# Altium schematic symbol library QUTMS_STMMicroLibrary.SchLib: 3 symbols
Pins are listed as number, name and electrical type; pins without a type are passive.

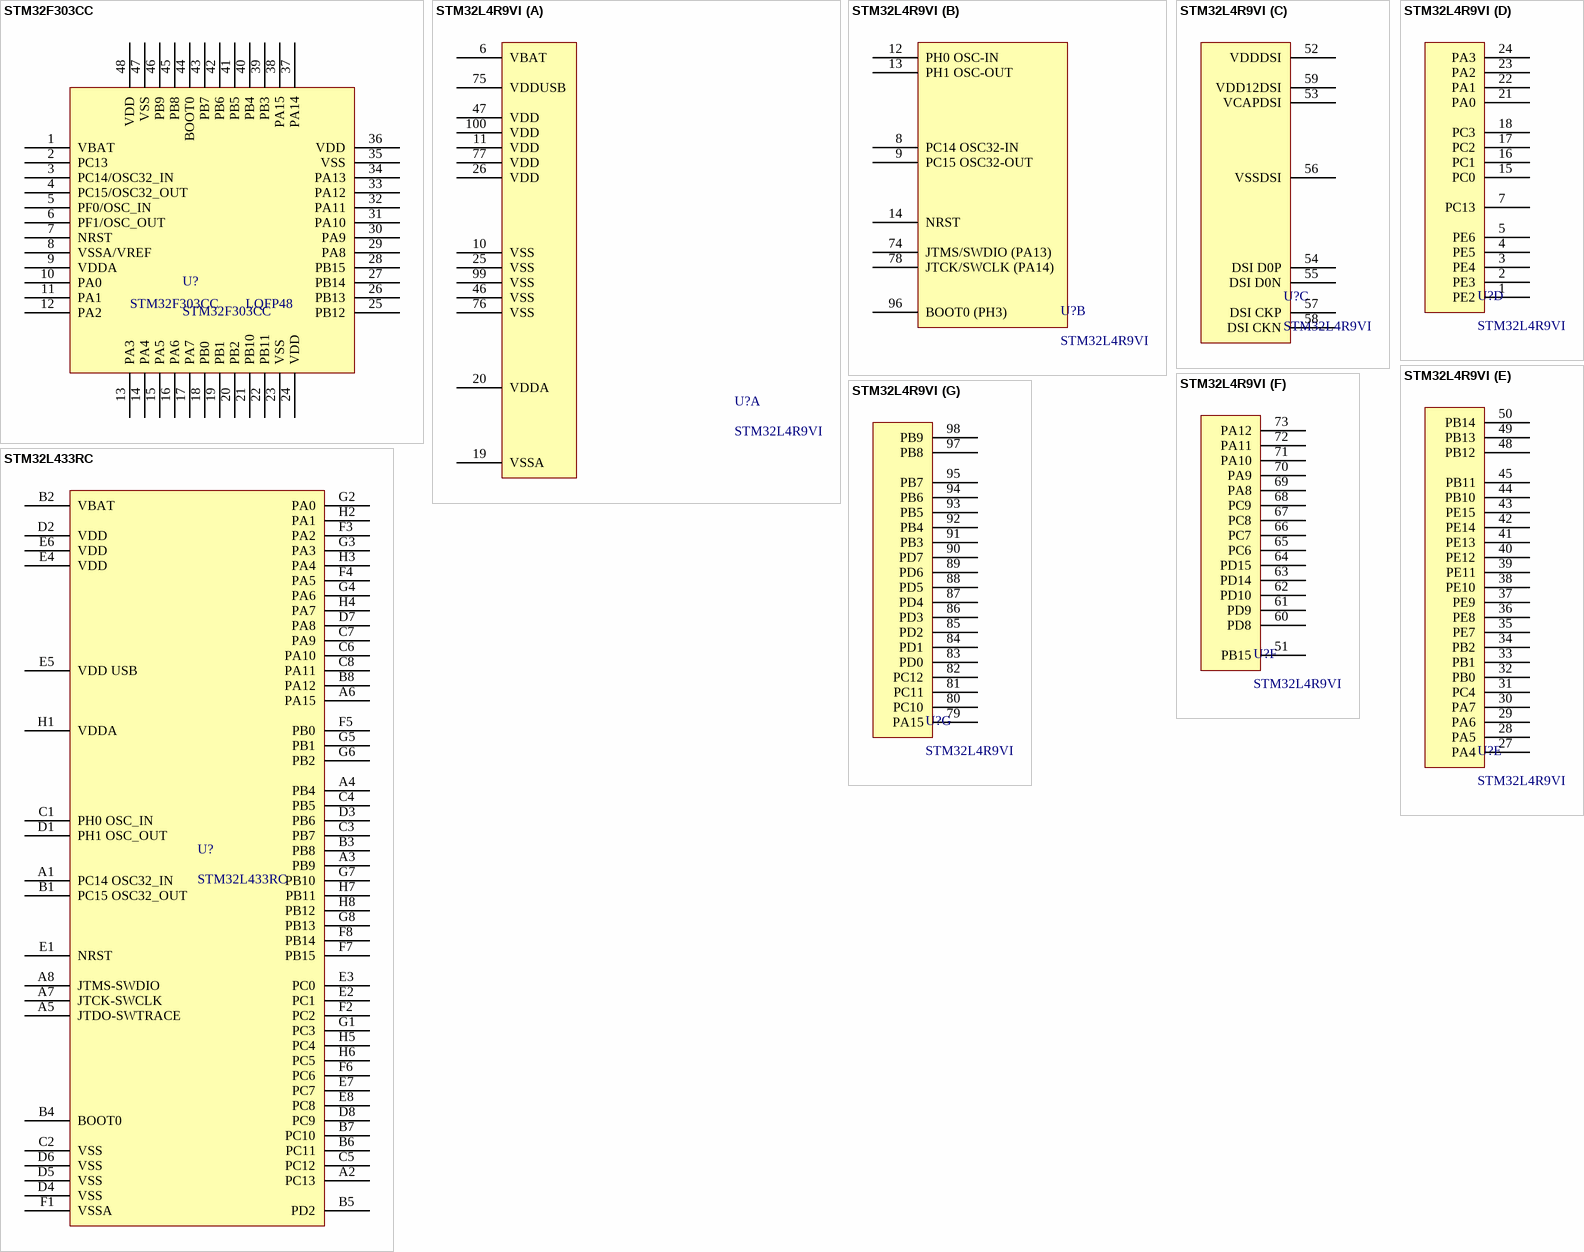
[diagram p0: symbols STM32F303CC to STM32L433RC]

## STM32F303CC
designator U?
32-Bit FLASH ARM® Cortex®-M4 72MHz 2V ~ 3.6V LQFP-48_7x7x05P ST Microelectronics RoHS
pins: 1 VBAT, 2 PC13, 3 PC14/OSC32_IN, 4 PC15/OSC32_OUT, 5 PF0/OSC_IN, 6 PF1/OSC_OUT, 7 NRST, 8 VSSA/VREF, 9 VDDA, 10 PA0, 11 PA1, 12 PA2, 13 PA3, 14 PA4, 15 PA5, 16 PA6, 17 PA7, 18 PB0, 19 PB1, 20 PB2, 21 PB10, 22 PB11, 23 VSS, 24 VDD, 25 PB12, 26 PB13, 27 PB14, 28 PB15, 29 PA8, 30 PA9, 31 PA10, 32 PA11, 33 PA12, 34 PA13, 35 VSS, 36 VDD, 37 PA14, 38 PA15, 39 PB3, 40 PB4, 41 PB5, 42 PB6, 43 PB7, 44 BOOT0, 45 PB8, 46 PB9, 47 VSS, 48 VDD
text: LQFP48

## STM32L4R9VI
designator U?
IC MCU 32BIT 2MB FLASH 100LQFP
footprint CQFP50P1700X1700X160-100N (CQFP, 100-Leads, Body 17.00x17.00mm, Pitch 0.50mm, IPC Medium Density)
part A pins: 6 VBAT, 10 VSS, 11 VDD, 19 VSSA, 20 VDDA, 25 VSS, 26 VDD, 46 VSS, 47 VDD, 75 VDDUSB, 76 VSS, 77 VDD, 99 VSS, 100 VDD
part B pins: 8 PC14 OSC32-IN, 9 PC15 OSC32-OUT, 12 PH0 OSC-IN, 13 PH1 OSC-OUT, 14 NRST, 74 JTMS/SWDIO (PA13), 78 JTCK/SWCLK (PA14), 96 BOOT0 (PH3)
part C pins: 52 VDDDSI, 53 VCAPDSI, 54 DSI D0P, 55 DSI D0N, 56 VSSDSI, 57 DSI CKP, 58 DSI CKN, 59 VDD12DSI
part D pins: 1 PE2, 2 PE3, 3 PE4, 4 PE5, 5 PE6, 7 PC13, 15 PC0, 16 PC1, 17 PC2, 18 PC3, 21 PA0, 22 PA1, 23 PA2, 24 PA3
part E pins: 27 PA4, 28 PA5, 29 PA6, 30 PA7, 31 PC4, 32 PB0, 33 PB1, 34 PB2, 35 PE7, 36 PE8, 37 PE9, 38 PE10, 39 PE11, 40 PE12, 41 PE13, 42 PE14, 43 PE15, 44 PB10, 45 PB11, 48 PB12, 49 PB13, 50 PB14
part F pins: 51 PB15, 60 PD8, 61 PD9, 62 PD10, 63 PD14, 64 PD15, 65 PC6, 66 PC7, 67 PC8, 68 PC9, 69 PA8, 70 PA9, 71 PA10, 72 PA11, 73 PA12
part G pins: 79 PA15, 80 PC10, 81 PC11, 82 PC12, 83 PD0, 84 PD1, 85 PD2, 86 PD3, 87 PD4, 88 PD5, 89 PD6, 90 PD7, 91 PB3, 92 PB4, 93 PB5, 94 PB6, 95 PB7, 97 PB8, 98 PB9

## STM32L433RC
designator U?
ARM® Cortex®-M4 STM32L4 Microcontroller IC 32-Bit 80MHz 256KB (256K x 8) FLASH 64-UFBGA (5x5)
footprint BGA64C50P8X8_500X500X53 (BGA, 64-Leads, Body 5.00x5.00mmx0.53mm, Pitch 0.50mm)
pins: A1 PC14 OSC32_IN, A2 PC13, A3 PB9, A4 PB4, A5 JTDO-SWTRACE, A6 PA15, A7 JTCK-SWCLK, A8 JTMS-SWDIO, B1 PC15 OSC32_OUT, B2 VBAT, B3 PB8, B4 BOOT0, B5 PD2, B6 PC11, B7 PC10, B8 PA12, C1 PH0 OSC_IN, C2 VSS, C3 PB7, C4 PB5, C5 PC12, C6 PA10, C7 PA9, C8 PA11, D1 PH1 OSC_OUT, D2 VDD, D3 PB6, D4 VSS, D5 VSS, D6 VSS, D7 PA8, D8 PC9, E1 NRST, E2 PC1, E3 PC0, E4 VDD, E5 VDD USB, E6 VDD, E7 PC7, E8 PC8, F1 VSSA, F2 PC2, F3 PA2, F4 PA5, F5 PB0, F6 PC6, F7 PB15, F8 PB14, G1 PC3, G2 PA0, G3 PA3, G4 PA6, G5 PB1, G6 PB2, G7 PB10, G8 PB13, H1 VDDA, H2 PA1, H3 PA4, H4 PA7, H5 PC4, H6 PC5, H7 PB11, H8 PB12